# Altium schematic symbol library SCH - DRIVER - LED - TI LM3466_DDA_8.SchLib: 1 symbol
Pins are listed as number, name and electrical type; pins without a type are passive.

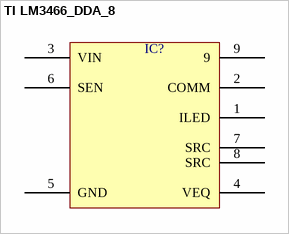
[diagram p0: symbol TI LM3466_DDA_8]

## TI LM3466_DDA_8
designator IC?  (value not drawn)
pins: 1 ILED, 2 COMM, 3 VIN, 4 VEQ, 5 GND, 6 SEN, 7 SRC, 8 SRC, 9